# EAGLE library part LCD-DRIVER_LCD_CONNECTOR (library DisplayDriver_0_005)
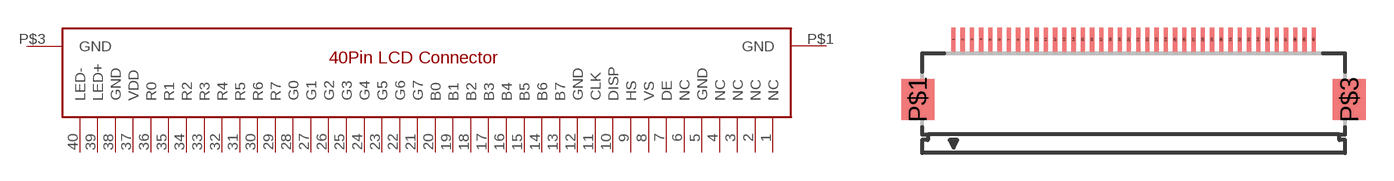
[diagram p0: symbol with the pads of LCD-DRIVER_FH12-40S-0.5SH; footprint LCD-DRIVER_FH12-40S-0.5SH]

Designator prefix -

## LCD-DRIVER_LCD_CONNECTOR  [LCD-DRIVER_FH12-40S-0.5SH]
1  NC
2  NC
3  NC
4  NC
5  GND
6  NC
7  DE
8  VS
9  HS
10  DISP
11  CLK
12  GND
13  B7
14  B6
15  B5
16  B4
17  B3
18  B2
19  B1
20  B0
21  G7
22  G6
23  G5
24  G4
25  G3
26  G2
27  G1
28  G0
29  R7
30  R6
31  R5
32  R4
33  R3
34  R2
35  R1
36  R0
37  VDD
38  GND
39  LED+
40  LED-
P$1  GND
P$3  GND

## Footprint LCD-DRIVER_FH12-40S-0.5SH (pad centres in mm)
0.5mm Pitch Connectors For FPC/FFC Source: Data sheet <http://www.hirose.co.jp/cataloge_hp/e58605370.pdf>
smd 0.229 x 1.3: 1 -9.75,3.25; 2 -9.25,3.25; 3 -8.75,3.25; 4 -8.25,3.25; 5 -7.75,3.25; 6 -7.25,3.25; 7 -6.75,3.25; 8 -6.25,3.25; 9 -5.75,3.25; 10 -5.25,3.25; 11 -4.75,3.25; 12 -4.25,3.25; 13 -3.75,3.25; 14 -3.25,3.25; 15 -2.75,3.25; 16 -2.25,3.25; 17 -1.75,3.25; 18 -1.25,3.25; 19 -0.75,3.25; 20 -0.25,3.25; 21 0.25,3.25; 22 0.75,3.25; 23 1.25,3.25; 24 1.75,3.25; 25 2.25,3.25; 26 2.75,3.25; 27 3.25,3.25; 28 3.75,3.25; 29 4.25,3.25; 30 4.75,3.25; 31 5.25,3.25; 32 5.75,3.25; 33 6.25,3.25; 34 6.75,3.25; 35 7.25,3.25; 36 7.75,3.25; 37 8.25,3.25; 38 8.75,3.25; 39 9.25,3.25; 40 9.75,3.25
smd 1.778 x 2.21: P$1 -11.684,0; P$3 11.684,0